# Altium schematic symbol library memory.SchLib: 1 symbol
Pins are listed as number, name and electrical type; pins without a type are passive.

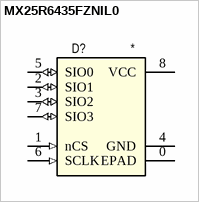
[diagram p0: symbol MX25R6435FZNIL0]

## MX25R6435FZNIL0
designator D?
pins: 0 EPAD (power), 1 nCS (in), 2 SIO1 (io), 3 SIO2 (io), 4 GND (power), 5 SIO0 (io), 6 SCLK (in), 7 SIO3 (io), 8 VCC (power)